# EAGLE library part MC14008BCPG (library On Semiconductor)
4-Bit Full Adder
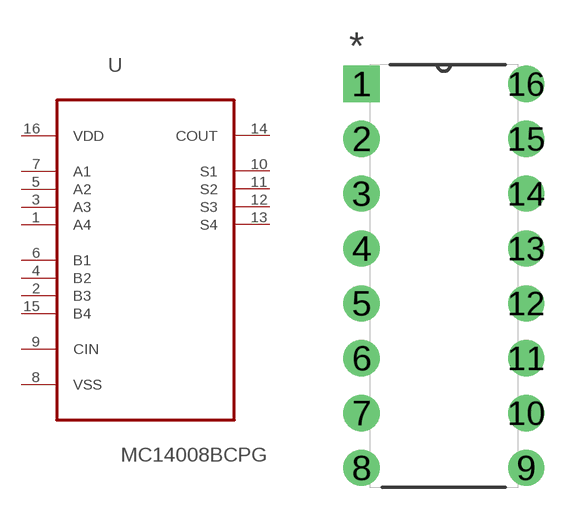
[diagram p195: symbol with the pads of DIP254P762X444-16; footprint DIP254P762X444-16]

Designator prefix U

## MC14008BCPG (MPN: MC14008BCPG; OC_FARNELL: 9665757; OC_NEWARK: 45J1013; PACKAGE: PDIP-16; SUPPLIER: ON SEMICONDUCTOR)  [DIP254P762X444-16]
1  A4  in
2  B3  in
3  A3  in
4  B2  in
5  A2  in
6  B1  in
7  A1  in
8  VSS  pas
9  CIN  in
10  S1  out
11  S2  out
12  S3  out
13  S4  out
14  COUT  out
15  B4  in
16  VDD  pwr

## Footprint DIP254P762X444-16 (pad centres in mm)
drill 1.118 square: 1 -7.62,17.78
drill 1.118: 2 -7.62,15.24; 3 -7.62,12.7; 4 -7.62,10.16; 5 -7.62,7.62; 6 -7.62,5.08; 7 -7.62,2.54; 8 -7.62,0; 9 0,0; 10 0,2.54; 11 0,5.08; 12 0,7.62; 13 0,10.16; 14 0,12.7; 15 0,15.24; 16 0,17.78